# EAGLE library part LTC1859IGPBF (library LTC-ADC)
16 Bit ADC
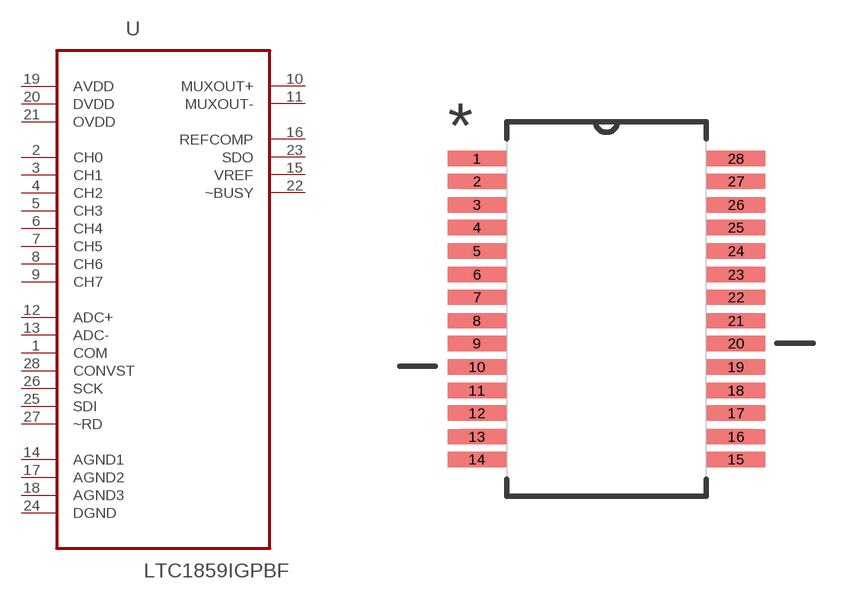
[diagram p0: symbol with the pads of SOP65P780X200-28N; footprint SOP65P780X200-28N]

Designator prefix U

## LTC1859IGPBF (MPN: LTC1859IG#PBF; OC_FARNELL: 1871533; OC_NEWARK: 56M4002; PACKAGE: SSOP-28; SUPPLIER: Linear Technology)  [SOP65P780X200-28N]
1  COM  in
2  CH0  in
3  CH1  in
4  CH2  in
5  CH3  in
6  CH4  in
7  CH5  in
8  CH6  in
9  CH7  in
10  MUXOUT+  out
11  MUXOUT-  out
12  ADC+  in
13  ADC-  in
14  AGND1  pas
15  VREF  out
16  REFCOMP  out
17  AGND2  pas
18  AGND3  pas
19  AVDD  pwr
20  DVDD  pwr
21  OVDD  pwr
22  ~BUSY  out
23  SDO  out
24  DGND  pas
25  SDI  in
26  SCK  in
27  ~RD  in
28  CONVST  in

## Footprint SOP65P780X200-28N (pad centres in mm)
smd 1.651 x 0.432: 1 -3.632,4.216; 2 -3.632,3.581; 3 -3.632,2.921; 4 -3.632,2.286; 5 -3.632,1.626; 6 -3.632,0.965; 7 -3.632,0.33; 8 -3.632,-0.33; 9 -3.632,-0.965; 10 -3.632,-1.626; 11 -3.632,-2.286; 12 -3.632,-2.921; 13 -3.632,-3.581; 14 -3.632,-4.216; 15 3.632,-4.216; 16 3.632,-3.581; 17 3.632,-2.921; 18 3.632,-2.286; 19 3.632,-1.626; 20 3.632,-0.965; 21 3.632,-0.33; 22 3.632,0.33; 23 3.632,0.965; 24 3.632,1.626; 25 3.632,2.286; 26 3.632,2.921; 27 3.632,3.581; 28 3.632,4.216